# Altium schematic symbol library GCM1885C2A221JA16D.SchLib: 1 symbol
Pins are listed as number, name and electrical type; pins without a type are passive.

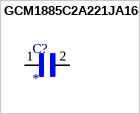
[diagram p0: symbol GCM1885C2A221JA16D]

## GCM1885C2A221JA16D
designator C?
MP: GCM1885C2A221JA16D; Package: None; Price: None; Value: *; Availability: Unavailable
footprint CAPC1608X90N
pins: 1, 2